# Altium footprint library PCB - CONNECTOR - HARWIN - HARWIN M20-7830345.PcbLib: 1 footprints
Each footprint in its own frame and in the unit in brackets; x right, y up, seen from the top. Pads: shape width x height; smd on the part's side, far side on the other; paste and mask are expansions set on the pad; w line width, h text height; cw(c..) or ccw(c..) is an arc to the next point about the centre after c.
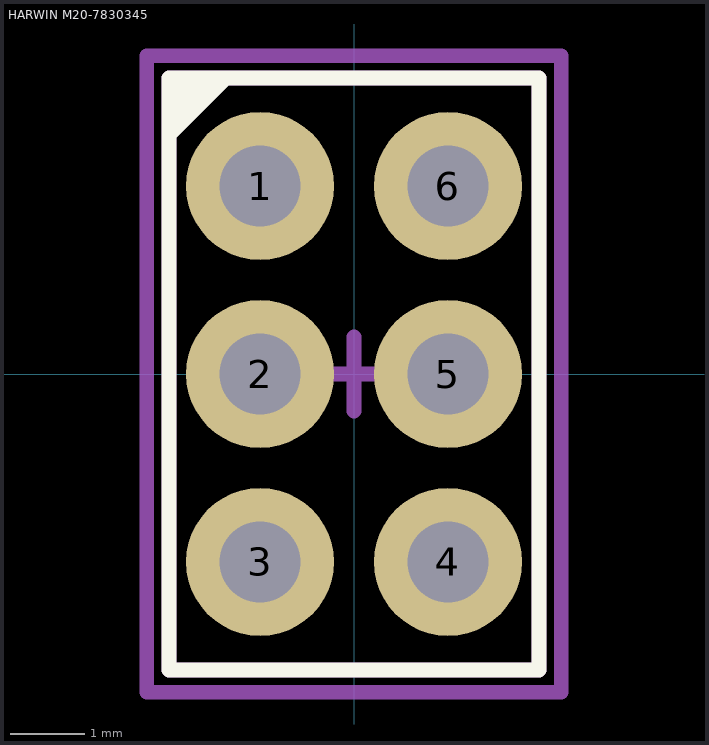
[diagram p0: the footprint, top view; thin cyan lines are the x and y axes]

## HARWIN M20-7830345 [mm] "2.54mm DIL PC TAIL PIN HEADER ASSEMBLY"
height 5
pads (6):
  round 2 hole 1.1: 1(-1.27,2.54) 2(-1.27,0) 3(-1.27,-2.54) 4(1.27,-2.54) 5(1.27,0) 6(1.27,2.54)
Top Overlay:
  region: -2.5,4 -2.5,3.1 -1.6,4
  lines w0.2: -2.5,-4 2.5,-4 2.5,4 -2.5,4 -2.5,-4
Top Assembly:
  lines w0.2: -0.5,0 0.5,0 ; 0,-0.5 0,0.5 ; -2.5,-4 2.5,-4 2.5,4 -2.5,4 -2.5,-4
Top Courtyard (Mech15):
  lines w0.2: -2.8,-4.3 2.8,-4.3 2.8,4.3 -2.8,4.3 -2.8,-4.3
3D body "M20-7830342.step": height 8.5, standoff -3, extent -2.52,-4.01 2.52,4.01